# Altium footprint library extra_footprints.PcbLib: 2 footprints
Each footprint in its own frame and in the unit in brackets; x right, y up, seen from the top. Pads: shape width x height; smd on the part's side, far side on the other; paste and mask are expansions set on the pad; w line width, h text height; cw(c..) or ccw(c..) is an arc to the next point about the centre after c.
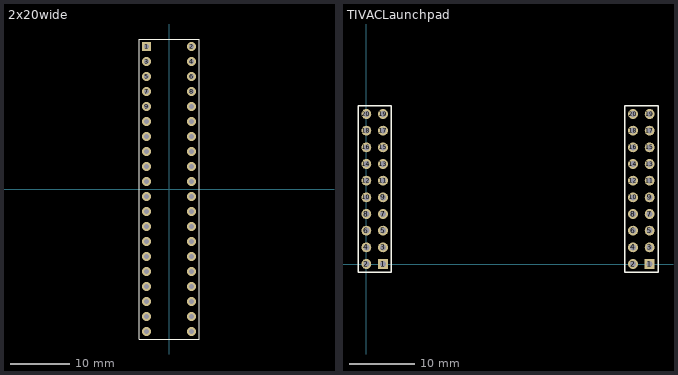
[diagram p0: the footprints below, top view; thin cyan lines are the x and y axes]

## 2x20wide [mm]
pads (40):
  rect 1.5x1.5 hole 0.9: 1(-3.81,24.13)
  round 1.5 hole 0.9: 2(3.81,24.13) 3(-3.81,21.59) 4(3.81,21.59) 5(-3.81,19.05) 6(3.81,19.05) 7(-3.81,16.51) 8(3.81,16.51) 9(-3.81,13.97) 10(3.81,13.97) 11(-3.81,11.43) 12(3.81,11.43) 13(-3.81,8.89) 14(3.81,8.89) 15(-3.81,6.35) 16(3.81,6.35) 17(-3.81,3.81) 18(3.81,3.81) 19(-3.81,1.27) 20(3.81,1.27) 21(-3.81,-1.27) 22(3.81,-1.27) 23(-3.81,-3.81) 24(3.81,-3.81) 25(-3.81,-6.35) 26(3.81,-6.35) 27(-3.81,-8.89) 28(3.81,-8.89) 29(-3.81,-11.43) 30(3.81,-11.43) 31(-3.81,-13.97) 32(3.81,-13.97) 33(-3.81,-16.51) 34(3.81,-16.51) 35(-3.81,-19.05) 36(3.81,-19.05) 37(-3.81,-21.59) 38(3.81,-21.59) 39(-3.81,-24.13) 40(3.81,-24.13)
Top Overlay:
  lines w0.2: -5.08,-25.4 5.08,-25.4 5.08,25.4 -5.08,25.4 -5.08,-25.4

## TIVACLaunchpad [mm]
pads (40):
  rect 1.5x1.5 hole 0.9: 1(2.54,0) 1(43.18,0)
  round 1.5 hole 0.9: 2(0,0) 2(40.64,0) 3(2.54,2.54) 3(43.18,2.54) 4(0,2.54) 4(40.64,2.54) 5(2.54,5.08) 5(43.18,5.08) 6(0,5.08) 6(40.64,5.08) 7(2.54,7.62) 7(43.18,7.62) 8(0,7.62) 8(40.64,7.62) 9(2.54,10.16) 9(43.18,10.16) 10(0,10.16) 10(40.64,10.16) 11(2.54,12.7) 11(43.18,12.7) 12(0,12.7) 12(40.64,12.7) 13(2.54,15.24) 13(43.18,15.24) 14(0,15.24) 14(40.64,15.24) 15(2.54,17.78) 15(43.18,17.78) 16(0,17.78) 16(40.64,17.78) 17(2.54,20.32) 17(43.18,20.32) 18(0,20.32) 18(40.64,20.32) 19(2.54,22.86) 19(43.18,22.86) 20(0,22.86) 20(40.64,22.86)
Top Overlay:
  lines w0.2: -1.27,-1.27 3.81,-1.27 3.81,0.635 3.81,24.13 -1.27,24.13 -1.27,0.635 -1.27,-1.27 ; 39.37,-1.27 44.45,-1.27 44.45,0.635 44.45,24.13 39.37,24.13 39.37,0.635 39.37,-1.27